# EAGLE library part PCM1748E/2K (library PCM1748)
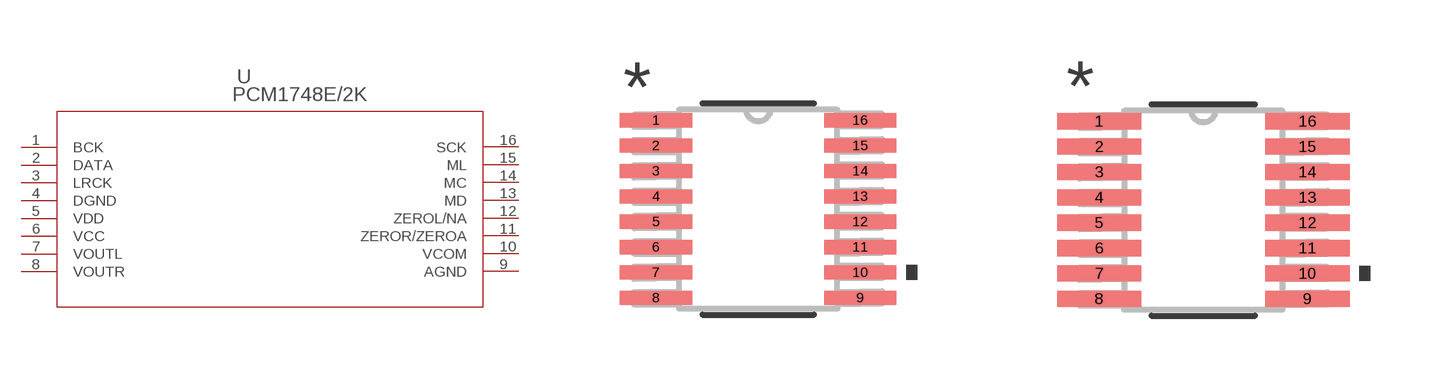
[diagram p0: symbol with the pads of DBQ16; footprints DBQ16, DBQ16-M]

Designator prefix U

## PCM1748E/2K (MANUFACTURER_PART_NUMBER: PCM1748E2K; VENDOR: Texas Instruments)  [DBQ16]
1  BCK  in
2  DATA  in
3  LRCK  in
4  DGND  pwr
5  VDD  pwr
6  VCC  pwr
7  VOUTL  out
8  VOUTR  out
9  AGND  pwr
10  VCOM  pwr
11  ZEROR/ZEROA  out
12  ZEROL/NA  out
13  MD  in
14  MC  in
15  ML  in
16  SCK  in

## PCM1748E/2KDBQ16-M (MANUFACTURER_PART_NUMBER: PCM1748E2K; VENDOR: Texas Instruments)  [DBQ16-M]
Pads as for DBQ16

## PCM1748E/2KDBQ16-L (MANUFACTURER_PART_NUMBER: PCM1748E2K; VENDOR: Texas Instruments)  [DBQ16-L]
Pads as for DBQ16

## Footprint DBQ16 (pad centres in mm)
smd 1.803 x 0.356: 1 -2.553,2.223; 2 -2.553,1.587; 3 -2.553,0.953; 4 -2.553,0.318; 5 -2.553,-0.318; 6 -2.553,-0.953; 7 -2.553,-1.587; 8 -2.553,-2.223; 9 2.553,-2.223; 10 2.553,-1.587; 11 2.553,-0.953; 12 2.553,-0.318; 13 2.553,0.318; 14 2.553,0.953; 15 2.553,1.587; 16 2.553,2.223

## Footprint DBQ16-M (pad centres in mm)
smd 2.108 x 0.406: 1 -2.603,2.223; 2 -2.603,1.587; 3 -2.603,0.953; 4 -2.603,0.318; 5 -2.603,-0.318; 6 -2.603,-0.953; 7 -2.603,-1.587; 8 -2.603,-2.223; 9 2.603,-2.223; 10 2.603,-1.587; 11 2.603,-0.953; 12 2.603,-0.318; 13 2.603,0.318; 14 2.603,0.953; 15 2.603,1.587; 16 2.603,2.223

## Footprint DBQ16-L (pad centres in mm)
smd 1.499 x 0.305: 1 -2.502,2.223; 2 -2.502,1.587; 3 -2.502,0.953; 4 -2.502,0.318; 5 -2.502,-0.318; 6 -2.502,-0.953; 7 -2.502,-1.587; 8 -2.502,-2.223; 9 2.502,-2.223; 10 2.502,-1.587; 11 2.502,-0.953; 12 2.502,-0.318; 13 2.502,0.318; 14 2.502,0.953; 15 2.502,1.587; 16 2.502,2.223